# Altium footprint library IC_SMD_BGA.PCBLIB: 109 footprints (part 7 of 14)
Each footprint in its own frame and in the unit in brackets; x right, y up, seen from the top. Pads: shape width x height; smd on the part's side, far side on the other; paste and mask are expansions set on the pad; w line width, h text height; cw(c..) or ccw(c..) is an arc to the next point about the centre after c.
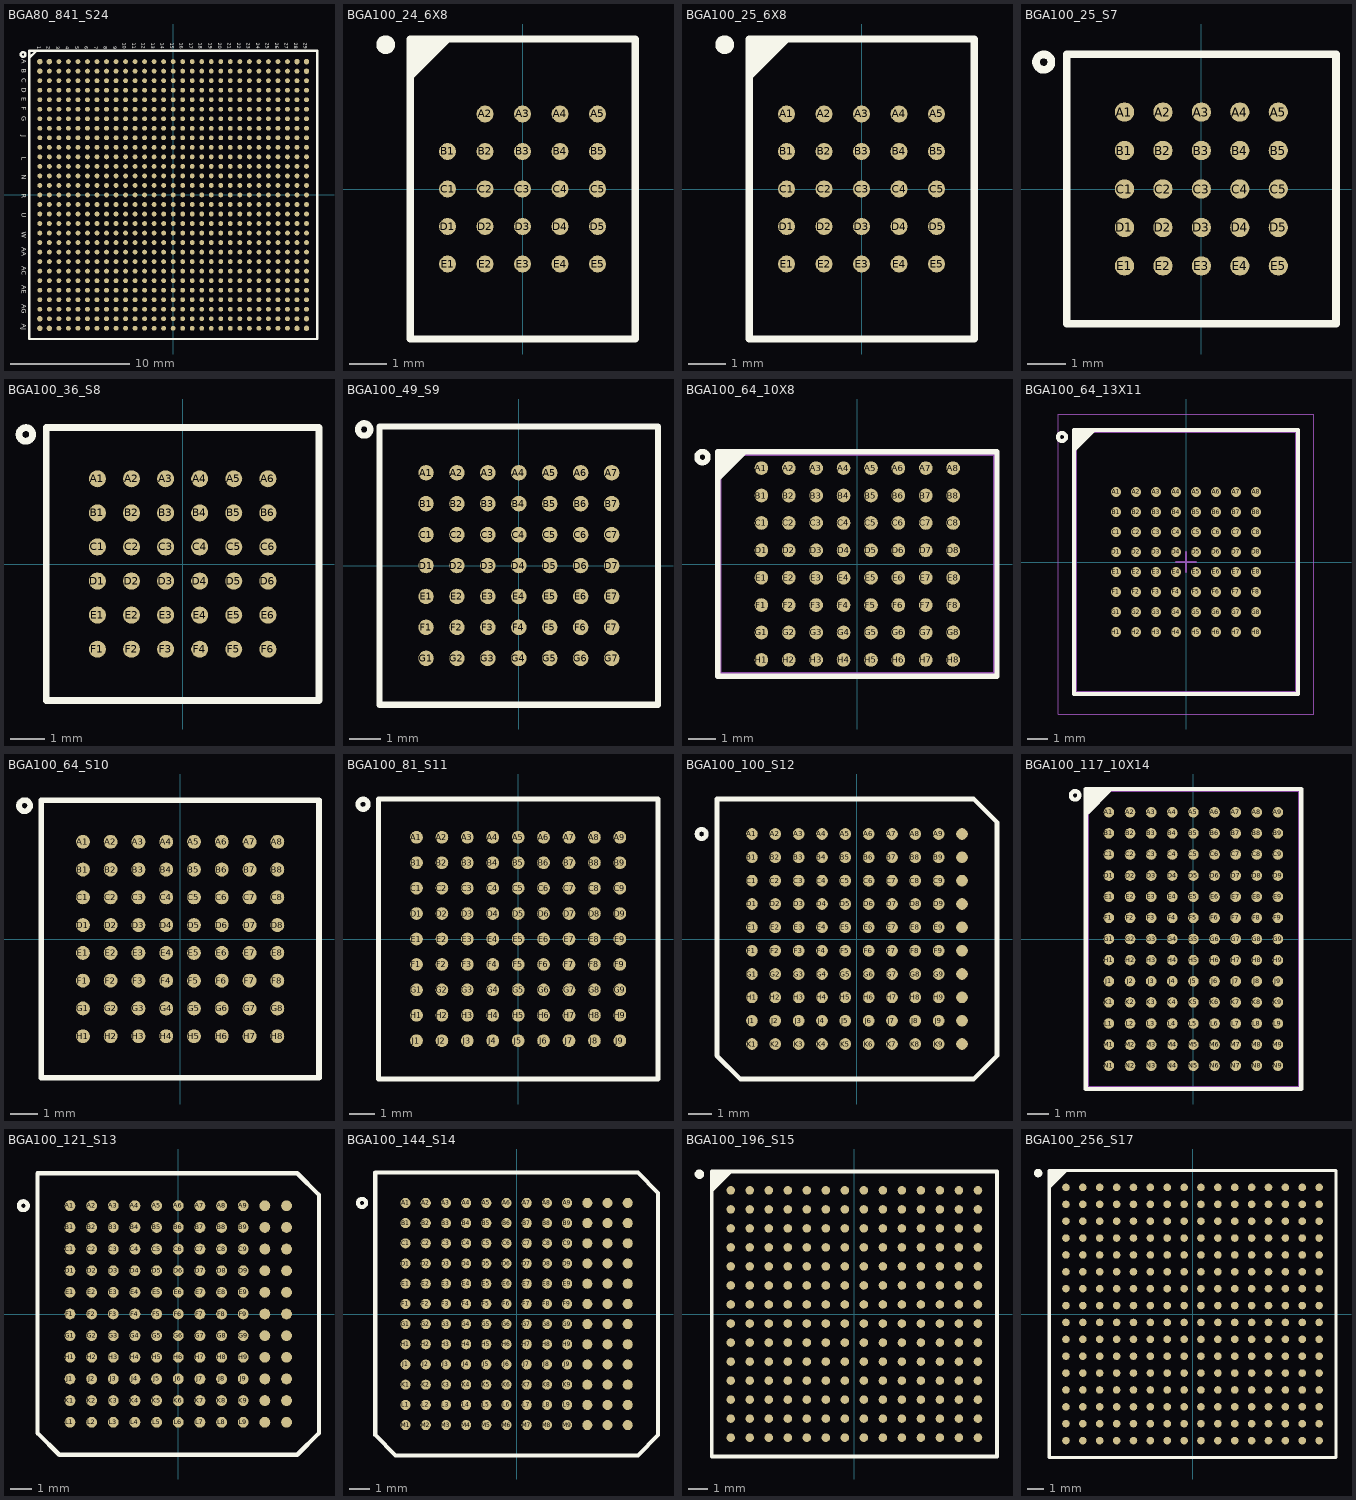
[diagram p6: the footprints below, top view; thin cyan lines are the x and y axes]

## BGA80_841_S24 [mil] "BGA_841P_31_945X945"
pads (841):
  round 18 smd: A1(-440.94,440.94) A2(-409.45,440.94) A28(409.45,440.94) A29(440.94,440.94) AH1(-440.94,-409.45) AH29(440.94,-409.45) AJ1(-440.94,-440.94) AJ2(-409.45,-440.94) AJ28(409.45,-440.94) AJ29(440.94,-440.94) B1(-440.94,409.45) B29(440.94,409.45)
  round 16 smd: A3(-377.95,440.94) A4(-346.46,440.94) A5(-314.96,440.94) A6(-283.46,440.94) A7(-251.97,440.94) A8(-220.47,440.94) A9(-188.98,440.94) A10(-157.48,440.94) A11(-125.98,440.94) A12(-94.49,440.94) A13(-62.99,440.94) A14(-31.5,440.94) A15(0,440.94) A16(31.5,440.94) A17(62.99,440.94) A18(94.49,440.94) A19(125.98,440.94) A20(157.48,440.94) A21(188.98,440.94) A22(220.47,440.94) A23(251.97,440.94) A24(283.46,440.94) A25(314.96,440.94) A26(346.46,440.94) A27(377.95,440.94) AA1(-440.94,-188.98) AA2(-409.45,-188.98) AA3(-377.95,-188.98) AA4(-346.46,-188.98) AA5(-314.96,-188.98) AA6(-283.46,-188.98) AA7(-251.97,-188.98) AA8(-220.47,-188.98) AA9(-188.98,-188.98) AA10(-157.48,-188.98) AA11(-125.98,-188.98) AA12(-94.49,-188.98) AA13(-62.99,-188.98) AA14(-31.5,-188.98) AA15(0,-188.98) AA16(31.5,-188.98) AA17(62.99,-188.98) AA18(94.49,-188.98) AA19(125.98,-188.98) AA20(157.48,-188.98) AA21(188.98,-188.98) AA22(220.47,-188.98) AA23(251.97,-188.98) AA24(283.46,-188.98) AA25(314.96,-188.98) AA26(346.46,-188.98) AA27(377.95,-188.98) AA28(409.45,-188.98) AA29(440.94,-188.98) AB1(-440.94,-220.47) AB2(-409.45,-220.47) AB3(-377.95,-220.47) AB4(-346.46,-220.47) AB5(-314.96,-220.47) AB6(-283.46,-220.47) AB7(-251.97,-220.47) AB8(-220.47,-220.47) AB9(-188.98,-220.47) AB10(-157.48,-220.47) AB11(-125.98,-220.47) AB12(-94.49,-220.47) AB13(-62.99,-220.47) AB14(-31.5,-220.47) AB15(0,-220.47) AB16(31.5,-220.47) AB17(62.99,-220.47) AB18(94.49,-220.47) AB19(125.98,-220.47) AB20(157.48,-220.47) AB21(188.98,-220.47) AB22(220.47,-220.47) AB23(251.97,-220.47) AB24(283.46,-220.47) AB25(314.96,-220.47) AB26(346.46,-220.47) AB27(377.95,-220.47) AB28(409.45,-220.47) AB29(440.94,-220.47) AC1(-440.94,-251.97) AC2(-409.45,-251.97) AC3(-377.95,-251.97) AC4(-346.46,-251.97) AC5(-314.96,-251.97) AC6(-283.46,-251.97) AC7(-251.97,-251.97) AC8(-220.47,-251.97) AC9(-188.98,-251.97) AC10(-157.48,-251.97) AC11(-125.98,-251.97) AC12(-94.49,-251.97) AC13(-62.99,-251.97) AC14(-31.5,-251.97) AC15(0,-251.97) AC16(31.5,-251.97) AC17(62.99,-251.97) AC18(94.49,-251.97) AC19(125.98,-251.97) AC20(157.48,-251.97) AC21(188.98,-251.97) AC22(220.47,-251.97) AC23(251.97,-251.97) AC24(283.46,-251.97) AC25(314.96,-251.97) AC26(346.46,-251.97) AC27(377.95,-251.97) AC28(409.45,-251.97) AC29(440.94,-251.97) AD1(-440.94,-283.46) AD2(-409.45,-283.46) AD3(-377.95,-283.46) AD4(-346.46,-283.46) AD5(-314.96,-283.46) AD6(-283.46,-283.46) AD7(-251.97,-283.46) AD8(-220.47,-283.46) AD9(-188.98,-283.46) AD10(-157.48,-283.46) AD11(-125.98,-283.46) AD12(-94.49,-283.46) AD13(-62.99,-283.46) AD14(-31.5,-283.46) AD15(0,-283.46) AD16(31.5,-283.46) AD17(62.99,-283.46) AD18(94.49,-283.46) AD19(125.98,-283.46) AD20(157.48,-283.46) AD21(188.98,-283.46) AD22(220.47,-283.46) AD23(251.97,-283.46) AD24(283.46,-283.46) AD25(314.96,-283.46) AD26(346.46,-283.46) AD27(377.95,-283.46) AD28(409.45,-283.46) AD29(440.94,-283.46) AE1(-440.94,-314.96) AE2(-409.45,-314.96) AE3(-377.95,-314.96) AE4(-346.46,-314.96) AE5(-314.96,-314.96) AE6(-283.46,-314.96) AE7(-251.97,-314.96) AE8(-220.47,-314.96) AE9(-188.98,-314.96) AE10(-157.48,-314.96) AE11(-125.98,-314.96) AE12(-94.49,-314.96) AE13(-62.99,-314.96) AE14(-31.5,-314.96) AE15(0,-314.96) AE16(31.5,-314.96) AE17(62.99,-314.96) AE18(94.49,-314.96) AE19(125.98,-314.96) AE20(157.48,-314.96) AE21(188.98,-314.96) AE22(220.47,-314.96) AE23(251.97,-314.96) AE24(283.46,-314.96) AE25(314.96,-314.96) AE26(346.46,-314.96) AE27(377.95,-314.96) AE28(409.45,-314.96) AE29(440.94,-314.96) AF1(-440.94,-346.46) AF2(-409.45,-346.46) AF3(-377.95,-346.46) AF4(-346.46,-346.46) AF5(-314.96,-346.46) AF6(-283.46,-346.46) AF7(-251.97,-346.46) AF8(-220.47,-346.46) AF9(-188.98,-346.46) AF10(-157.48,-346.46) AF11(-125.98,-346.46) AF12(-94.49,-346.46) AF13(-62.99,-346.46) AF14(-31.5,-346.46) AF15(0,-346.46) AF16(31.5,-346.46) AF17(62.99,-346.46) AF18(94.49,-346.46) AF19(125.98,-346.46) AF20(157.48,-346.46) AF21(188.98,-346.46) AF22(220.47,-346.46) AF23(251.97,-346.46) AF24(283.46,-346.46) AF25(314.96,-346.46) AF26(346.46,-346.46) AF27(377.95,-346.46) AF28(409.45,-346.46) AF29(440.94,-346.46) AG1(-440.94,-377.95) AG2(-409.45,-377.95) AG3(-377.95,-377.95) AG4(-346.46,-377.95) AG5(-314.96,-377.95) AG6(-283.46,-377.95) AG7(-251.97,-377.95) AG8(-220.47,-377.95) AG9(-188.98,-377.95) AG10(-157.48,-377.95) AG11(-125.98,-377.95) AG12(-94.49,-377.95) AG13(-62.99,-377.95) AG14(-31.5,-377.95) AG15(0,-377.95) AG16(31.5,-377.95) AG17(62.99,-377.95) AG18(94.49,-377.95) AG19(125.98,-377.95) AG20(157.48,-377.95) AG21(188.98,-377.95) AG22(220.47,-377.95) AG23(251.97,-377.95) AG24(283.46,-377.95) AG25(314.96,-377.95) AG26(346.46,-377.95) AG27(377.95,-377.95) AG28(409.45,-377.95) AG29(440.94,-377.95) AH2(-409.45,-409.45) AH3(-377.95,-409.45) AH4(-346.46,-409.45) AH5(-314.96,-409.45) AH6(-283.46,-409.45) AH7(-251.97,-409.45) AH8(-220.47,-409.45) AH9(-188.98,-409.45) AH10(-157.48,-409.45) AH11(-125.98,-409.45) AH12(-94.49,-409.45) AH13(-62.99,-409.45) AH14(-31.5,-409.45) AH15(0,-409.45) AH16(31.5,-409.45) AH17(62.99,-409.45) AH18(94.49,-409.45) AH19(125.98,-409.45) AH20(157.48,-409.45) AH21(188.98,-409.45) AH22(220.47,-409.45) AH23(251.97,-409.45) AH24(283.46,-409.45) AH25(314.96,-409.45) AH26(346.46,-409.45) AH27(377.95,-409.45) AH28(409.45,-409.45) AJ3(-377.95,-440.94) AJ4(-346.46,-440.94) AJ5(-314.96,-440.94) AJ6(-283.46,-440.94) AJ7(-251.97,-440.94) AJ8(-220.47,-440.94) AJ9(-188.98,-440.94) AJ10(-157.48,-440.94) AJ11(-125.98,-440.94) AJ12(-94.49,-440.94) AJ13(-62.99,-440.94) AJ14(-31.5,-440.94) AJ15(0,-440.94) AJ16(31.5,-440.94) AJ17(62.99,-440.94) AJ18(94.49,-440.94) AJ19(125.98,-440.94) AJ20(157.48,-440.94) AJ21(188.98,-440.94) AJ22(220.47,-440.94) AJ23(251.97,-440.94) AJ24(283.46,-440.94) AJ25(314.96,-440.94) AJ26(346.46,-440.94) AJ27(377.95,-440.94) B2(-409.45,409.45) B3(-377.95,409.45) B4(-346.46,409.45) B5(-314.96,409.45) B6(-283.46,409.45) B7(-251.97,409.45) B8(-220.47,409.45) B9(-188.98,409.45) B10(-157.48,409.45) B11(-125.98,409.45) B12(-94.49,409.45) B13(-62.99,409.45) B14(-31.5,409.45) B15(0,409.45) B16(31.5,409.45) B17(62.99,409.45) B18(94.49,409.45) B19(125.98,409.45) B20(157.48,409.45) B21(188.98,409.45) B22(220.47,409.45) B23(251.97,409.45) B24(283.46,409.45) B25(314.96,409.45) B26(346.46,409.45) B27(377.95,409.45) B28(409.45,409.45) C1(-440.94,377.95) C2(-409.45,377.95) C3(-377.95,377.95) C4(-346.46,377.95) C5(-314.96,377.95) C6(-283.46,377.95) C7(-251.97,377.95) C8(-220.47,377.95) C9(-188.98,377.95) C10(-157.48,377.95) C11(-125.98,377.95) C12(-94.49,377.95) C13(-62.99,377.95) C14(-31.5,377.95) C15(0,377.95) C16(31.5,377.95) C17(62.99,377.95) C18(94.49,377.95) C19(125.98,377.95) C20(157.48,377.95) C21(188.98,377.95) C22(220.47,377.95) C23(251.97,377.95) C24(283.46,377.95) C25(314.96,377.95) C26(346.46,377.95) C27(377.95,377.95) C28(409.45,377.95) C29(440.94,377.95) D1(-440.94,346.46) D2(-409.45,346.46) D3(-377.95,346.46) D4(-346.46,346.46) D5(-314.96,346.46) D6(-283.46,346.46) D7(-251.97,346.46) D8(-220.47,346.46) D9(-188.98,346.46) D10(-157.48,346.46) D11(-125.98,346.46) D12(-94.49,346.46) D13(-62.99,346.46) D14(-31.5,346.46) D15(0,346.46) D16(31.5,346.46) D17(62.99,346.46) D18(94.49,346.46) D19(125.98,346.46) D20(157.48,346.46) D21(188.98,346.46) D22(220.47,346.46) D23(251.97,346.46) D24(283.46,346.46) D25(314.96,346.46) D26(346.46,346.46) D27(377.95,346.46) D28(409.45,346.46) D29(440.94,346.46) E1(-440.94,314.96) E2(-409.45,314.96) E3(-377.95,314.96) E4(-346.46,314.96) E5(-314.96,314.96) E6(-283.46,314.96) E7(-251.97,314.96) E8(-220.47,314.96) E9(-188.98,314.96) E10(-157.48,314.96) E11(-125.98,314.96) E12(-94.49,314.96) E13(-62.99,314.96) E14(-31.5,314.96) E15(0,314.96) E16(31.5,314.96) E17(62.99,314.96) E18(94.49,314.96) E19(125.98,314.96) E20(157.48,314.96) E21(188.98,314.96) E22(220.47,314.96) E23(251.97,314.96) E24(283.46,314.96) E25(314.96,314.96) E26(346.46,314.96) E27(377.95,314.96) E28(409.45,314.96) E29(440.94,314.96) F1(-440.94,283.46) F2(-409.45,283.46) F3(-377.95,283.46) F4(-346.46,283.46) F5(-314.96,283.46) F6(-283.46,283.46) F7(-251.97,283.46) F8(-220.47,283.46) F9(-188.98,283.46) F10(-157.48,283.46) F11(-125.98,283.46) F12(-94.49,283.46) F13(-62.99,283.46) F14(-31.5,283.46) F15(0,283.46) F16(31.5,283.46) F17(62.99,283.46) F18(94.49,283.46) F19(125.98,283.46) F20(157.48,283.46) F21(188.98,283.46) F22(220.47,283.46) F23(251.97,283.46) F24(283.46,283.46) F25(314.96,283.46) F26(346.46,283.46) F27(377.95,283.46) F28(409.45,283.46) F29(440.94,283.46) G1(-440.94,251.97) G2(-409.45,251.97) G3(-377.95,251.97) G4(-346.46,251.97) G5(-314.96,251.97) G6(-283.46,251.97) G7(-251.97,251.97) G8(-220.47,251.97) G9(-188.98,251.97) G10(-157.48,251.97) G11(-125.98,251.97) G12(-94.49,251.97) G13(-62.99,251.97) G14(-31.5,251.97) G15(0,251.97) G16(31.5,251.97) G17(62.99,251.97) G18(94.49,251.97) G19(125.98,251.97) G20(157.48,251.97) G21(188.98,251.97) G22(220.47,251.97) G23(251.97,251.97) G24(283.46,251.97) G25(314.96,251.97) G26(346.46,251.97) G27(377.95,251.97) G28(409.45,251.97) G29(440.94,251.97) H1(-440.94,220.47) H2(-409.45,220.47) H3(-377.95,220.47) H4(-346.46,220.47) H5(-314.96,220.47) H6(-283.46,220.47) H7(-251.97,220.47) H8(-220.47,220.47) H9(-188.98,220.47) H10(-157.48,220.47) H11(-125.98,220.47) H12(-94.49,220.47) H13(-62.99,220.47) H14(-31.5,220.47) H15(0,220.47) H16(31.5,220.47) H17(62.99,220.47) H18(94.49,220.47) H19(125.98,220.47) H20(157.48,220.47) H21(188.98,220.47) H22(220.47,220.47) H23(251.97,220.47) H24(283.46,220.47) H25(314.96,220.47) H26(346.46,220.47) H27(377.95,220.47) H28(409.45,220.47) H29(440.94,220.47) J1(-440.94,188.98) J2(-409.45,188.98) J3(-377.95,188.98) J4(-346.46,188.98) J5(-314.96,188.98) J6(-283.46,188.98) J7(-251.97,188.98) J8(-220.47,188.98) J9(-188.98,188.98) J10(-157.48,188.98) J11(-125.98,188.98) J12(-94.49,188.98) J13(-62.99,188.98) J14(-31.5,188.98) J15(0,188.98) J16(31.5,188.98) J17(62.99,188.98) J18(94.49,188.98) J19(125.98,188.98) J20(157.48,188.98) J21(188.98,188.98) J22(220.47,188.98) J23(251.97,188.98) J24(283.46,188.98) J25(314.96,188.98) J26(346.46,188.98) J27(377.95,188.98) J28(409.45,188.98) J29(440.94,188.98) K1(-440.94,157.48) K2(-409.45,157.48) K3(-377.95,157.48) K4(-346.46,157.48) K5(-314.96,157.48) K6(-283.46,157.48) K7(-251.97,157.48) K8(-220.47,157.48) K9(-188.98,157.48) K10(-157.48,157.48) K11(-125.98,157.48) K12(-94.49,157.48) K13(-62.99,157.48) K14(-31.5,157.48) K15(0,157.48) K16(31.5,157.48) K17(62.99,157.48) K18(94.49,157.48) K19(125.98,157.48) K20(157.48,157.48) K21(188.98,157.48) K22(220.47,157.48) K23(251.97,157.48) K24(283.46,157.48) K25(314.96,157.48) K26(346.46,157.48) K27(377.95,157.48) K28(409.45,157.48) K29(440.94,157.48) L1(-440.94,125.98) L2(-409.45,125.98) L3(-377.95,125.98) L4(-346.46,125.98) L5(-314.96,125.98) L6(-283.46,125.98) L7(-251.97,125.98) L8(-220.47,125.98) L9(-188.98,125.98) L10(-157.48,125.98) L11(-125.98,125.98) L12(-94.49,125.98) L13(-62.99,125.98) L14(-31.5,125.98) L15(0,125.98) L16(31.5,125.98) L17(62.99,125.98) L18(94.49,125.98) L19(125.98,125.98) L20(157.48,125.98) L21(188.98,125.98) L22(220.47,125.98) L23(251.97,125.98) L24(283.46,125.98) L25(314.96,125.98) L26(346.46,125.98) L27(377.95,125.98) L28(409.45,125.98) L29(440.94,125.98) M1(-440.94,94.49) M2(-409.45,94.49) M3(-377.95,94.49) M4(-346.46,94.49) M5(-314.96,94.49) M6(-283.46,94.49) M7(-251.97,94.49) M8(-220.47,94.49) M9(-188.98,94.49) M10(-157.48,94.49) M11(-125.98,94.49) M12(-94.49,94.49) M13(-62.99,94.49) M14(-31.5,94.49) M15(0,94.49) M16(31.5,94.49) M17(62.99,94.49) M18(94.49,94.49) M19(125.98,94.49) M20(157.48,94.49) M21(188.98,94.49) M22(220.47,94.49) M23(251.97,94.49) M24(283.46,94.49) M25(314.96,94.49) M26(346.46,94.49) M27(377.95,94.49) M28(409.45,94.49) M29(440.94,94.49) N1(-440.94,62.99) N2(-409.45,62.99) N3(-377.95,62.99) N4(-346.46,62.99) N5(-314.96,62.99) N6(-283.46,62.99) N7(-251.97,62.99) N8(-220.47,62.99) N9(-188.98,62.99) N10(-157.48,62.99) N11(-125.98,62.99) N12(-94.49,62.99) N13(-62.99,62.99) N14(-31.5,62.99) N15(0,62.99) N16(31.5,62.99) N17(62.99,62.99) N18(94.49,62.99) N19(125.98,62.99) N20(157.48,62.99) N21(188.98,62.99) N22(220.47,62.99) N23(251.97,62.99) N24(283.46,62.99) N25(314.96,62.99) N26(346.46,62.99) N27(377.95,62.99) N28(409.45,62.99) N29(440.94,62.99) P1(-440.94,31.5) P2(-409.45,31.5) P3(-377.95,31.5) P4(-346.46,31.5) P5(-314.96,31.5) P6(-283.46,31.5) P7(-251.97,31.5) P8(-220.47,31.5) P9(-188.98,31.5) P10(-157.48,31.5) P11(-125.98,31.5) P12(-94.49,31.5) P13(-62.99,31.5) P14(-31.5,31.5) P15(0,31.5) P16(31.5,31.5) P17(62.99,31.5) P18(94.49,31.5) P19(125.98,31.5) P20(157.48,31.5) P21(188.98,31.5) P22(220.47,31.5) P23(251.97,31.5) P24(283.46,31.5) P25(314.96,31.5) P26(346.46,31.5) P27(377.95,31.5) P28(409.45,31.5) P29(440.94,31.5) R1(-440.94,0) R2(-409.45,0) R3(-377.95,0) R4(-346.46,0) R5(-314.96,0) R6(-283.46,0) R7(-251.97,0) R8(-220.47,0) R9(-188.98,0) R10(-157.48,0) R11(-125.98,0) R12(-94.49,0) R13(-62.99,0) R14(-31.5,0) R15(0,0) R16(31.5,0) R17(62.99,0) R18(94.49,0) R19(125.98,0) R20(157.48,0) R21(188.98,0) R22(220.47,0) R23(251.97,0) R24(283.46,0) R25(314.96,0) R26(346.46,0) R27(377.95,0) R28(409.45,0) R29(440.94,0) T1(-440.94,-31.5) T2(-409.45,-31.5) T3(-377.95,-31.5) T4(-346.46,-31.5) T5(-314.96,-31.5) T6(-283.46,-31.5) T7(-251.97,-31.5) T8(-220.47,-31.5) T9(-188.98,-31.5) T10(-157.48,-31.5) T11(-125.98,-31.5) T12(-94.49,-31.5) T13(-62.99,-31.5) T14(-31.5,-31.5) T15(0,-31.5) T16(31.5,-31.5) T17(62.99,-31.5) T18(94.49,-31.5) T19(125.98,-31.5) T20(157.48,-31.5) T21(188.98,-31.5) T22(220.47,-31.5) T23(251.97,-31.5) T24(283.46,-31.5) T25(314.96,-31.5) T26(346.46,-31.5) T27(377.95,-31.5) T28(409.45,-31.5) T29(440.94,-31.5) U1(-440.94,-62.99) U2(-409.45,-62.99) U3(-377.95,-62.99) U4(-346.46,-62.99) U5(-314.96,-62.99) U6(-283.46,-62.99) U7(-251.97,-62.99) U8(-220.47,-62.99) U9(-188.98,-62.99) U10(-157.48,-62.99) U11(-125.98,-62.99) U12(-94.49,-62.99) U13(-62.99,-62.99) U14(-31.5,-62.99) U15(0,-62.99) U16(31.5,-62.99) U17(62.99,-62.99) U18(94.49,-62.99) U19(125.98,-62.99) U20(157.48,-62.99) U21(188.98,-62.99) U22(220.47,-62.99) U23(251.97,-62.99) U24(283.46,-62.99) U25(314.96,-62.99) U26(346.46,-62.99) U27(377.95,-62.99) U28(409.45,-62.99) U29(440.94,-62.99) V1(-440.94,-94.49) V2(-409.45,-94.49) V3(-377.95,-94.49) V4(-346.46,-94.49) V5(-314.96,-94.49) V6(-283.46,-94.49) V7(-251.97,-94.49) V8(-220.47,-94.49) V9(-188.98,-94.49) V10(-157.48,-94.49) V11(-125.98,-94.49) V12(-94.49,-94.49) V13(-62.99,-94.49) V14(-31.5,-94.49) V15(0,-94.49) V16(31.5,-94.49) V17(62.99,-94.49) V18(94.49,-94.49) V19(125.98,-94.49) V20(157.48,-94.49) V21(188.98,-94.49) V22(220.47,-94.49) V23(251.97,-94.49) V24(283.46,-94.49) V25(314.96,-94.49) V26(346.46,-94.49) V27(377.95,-94.49) V28(409.45,-94.49) V29(440.94,-94.49) W1(-440.94,-125.98) W2(-409.45,-125.98) W3(-377.95,-125.98) W4(-346.46,-125.98) W5(-314.96,-125.98) W6(-283.46,-125.98) W7(-251.97,-125.98) W8(-220.47,-125.98) W9(-188.98,-125.98) W10(-157.48,-125.98) W11(-125.98,-125.98) W12(-94.49,-125.98) W13(-62.99,-125.98) W14(-31.5,-125.98) W15(0,-125.98) W16(31.5,-125.98) W17(62.99,-125.98) W18(94.49,-125.98) W19(125.98,-125.98) W20(157.48,-125.98) W21(188.98,-125.98) W22(220.47,-125.98) W23(251.97,-125.98) W24(283.46,-125.98) W25(314.96,-125.98) W26(346.46,-125.98) W27(377.95,-125.98) W28(409.45,-125.98) W29(440.94,-125.98) Y1(-440.94,-157.48) Y2(-409.45,-157.48) Y3(-377.95,-157.48) Y4(-346.46,-157.48) Y5(-314.96,-157.48) Y6(-283.46,-157.48) Y7(-251.97,-157.48) Y8(-220.47,-157.48) Y9(-188.98,-157.48) Y10(-157.48,-157.48) Y11(-125.98,-157.48) Y12(-94.49,-157.48) Y13(-62.99,-157.48) Y14(-31.5,-157.48) Y15(0,-157.48) Y16(31.5,-157.48) Y17(62.99,-157.48) Y18(94.49,-157.48) Y19(125.98,-157.48) Y20(157.48,-157.48) Y21(188.98,-157.48) Y22(220.47,-157.48) Y23(251.97,-157.48) Y24(283.46,-157.48) Y25(314.96,-157.48) Y26(346.46,-157.48) Y27(377.95,-157.48) Y28(409.45,-157.48) Y29(440.94,-157.48)
TopOverlay:
  circle w7.87: c-496.06,464.57 r7.87
  lines w7.87: -476.38,452.76 -452.76,476.38 ; -476.38,-476.38 476.38,-476.38 476.38,476.38 -476.38,476.38 -476.38,-476.38
  text "29" at 431.85,503.94 h11.81
  text "28" at 400.35,503.94 h11.81
  text "27" at 368.86,503.94 h11.81
  text "26" at 337.36,503.94 h11.81
  text "25" at 305.87,503.94 h11.81
  text "24" at 274.37,503.94 h11.81
  text "23" at 242.87,503.94 h11.81
  text "22" at 211.38,503.94 h11.81
  text "21" at 179.88,503.94 h11.81
  text "20" at 148.39,503.94 h11.81
  text "19" at 116.89,503.94 h11.81
  text "18" at 85.39,503.94 h11.81
  text "17" at 53.9,503.94 h11.81
  text "16" at 22.4,503.94 h11.81
  text "15" at -9.09,503.94 h11.81
  text "14" at -40.59,503.94 h11.81
  text "13" at -72.09,503.94 h11.81
  text "12" at -103.58,503.94 h11.81
  text "11" at -135.08,503.94 h11.81
  text "10" at -166.57,503.94 h11.81
  text "9" at -197.46,492.13 h11.81
  text "8" at -228.96,492.13 h11.81
  text "7" at -260.45,492.13 h11.81
  text "6" at -291.95,492.13 h11.81
  text "5" at -323.44,492.13 h11.81
  text "4" at -354.94,492.13 h11.81
  text "3" at -386.44,492.13 h11.81
  text "2" at -417.93,492.13 h11.81
  text "AJ" at -500,-425.19 h15.75
  text "AG" at -500,-362.2 h15.75
  text "AE" at -500,-299.21 h15.75
  text "AC" at -500,-236.22 h15.75
  text "AA" at -500,-173.23 h15.75
  text "W" at -500,-122.05 h15.75
  text "U" at -500,-59.06 h15.75
  text "R" at -500,3.94 h15.75
  text "N" at -500,66.93 h15.75
  text "L" at -500,125.98 h15.75
  text "J" at -500,196.85 h15.75
  text "G" at -500,259.84 h15.75
  text "F" at -500,291.33 h15.75
  text "E" at -500,322.83 h15.75
  text "D" at -500,354.33 h15.75
  text "C" at -500,385.82 h15.75
  text "B" at -500,417.32 h15.75
  text "1" at -449.43,492.13 h11.81
  text "A" at -500,448.81 h15.75
3D body: height 125.98, standoff 86.61, extent -452.76,-452.76 452.76,452.76
3D body: height 59.06, standoff 15.75, extent -472.44,-472.44 472.44,472.44

## BGA100_24_6X8 [mm] "TFBGA, 1mm pitch, 6X8mm, 5X5=24-Ball"
height 1.2
pads (24):
  round 0.45 smd mask+0.075: A2(-1,2) A3(0,2) A4(1,2) A5(2,2) B1(-2,1) B2(-1,1) B3(0,1) B4(1,1) B5(2,1) C1(-2,0) C2(-1,0) C3(0,0) C4(1,0) C5(2,0) D1(-2,-1) D2(-1,-1) D3(0,-1) D4(1,-1) D5(2,-1) E1(-2,-2) E2(-1,-2) E3(0,-2) E4(1,-2) E5(2,-2)
TopOverlay:
  circle w0.25: c-3.65,3.85 r0.125
  region: -2,4 -3,3 -3,4
  lines w0.2: -3,3 -2,4 ; -3,-4 3,-4 3,4 -3,4 -3,-4
Mechanical13:
  lines w0.1: -3,-4 3,-4 3,4 -3,4 -3,-4
3D body "BGA100_25_6X8.step": height 1.2, standoff 0, extent -3,-4 3,4

## BGA100_25_6X8 [mm] "TFBGA, 1mm pitch, 6X8mm, 5X5=25-Ball"
height 1.2
pads (25):
  round 0.45 smd mask+0.075: A1(-2,2) A2(-1,2) A3(0,2) A4(1,2) A5(2,2) B1(-2,1) B2(-1,1) B3(0,1) B4(1,1) B5(2,1) C1(-2,0) C2(-1,0) C3(0,0) C4(1,0) C5(2,0) D1(-2,-1) D2(-1,-1) D3(0,-1) D4(1,-1) D5(2,-1) E1(-2,-2) E2(-1,-2) E3(0,-2) E4(1,-2) E5(2,-2)
TopOverlay:
  circle w0.25: c-3.65,3.85 r0.125
  region: -2,4 -3,3 -3,4
  lines w0.2: -3,3 -2,4 ; -3,-4 -3,4 3,4 3,-4 -3,-4
Mechanical13:
  lines w0.1: -3,-4 -3,4 3,4 3,-4 -3,-4
3D body "BGA100_25_6X8.step": height 1.2, standoff 0, extent -3,-4 3,4

## BGA100_25_S7 [mm] "BGA, 25-Leads, Body 7x7mm, Pitch 1mm"
height 3.5
pads (25):
  round 0.5 smd: A1(-2,2) A2(-1,2) A3(0,2) A4(1,2) A5(2,2) B1(-2,1) B2(-1,1) B3(0,1) B4(1,1) B5(2,1) C1(-2,0) C2(-1,0) C3(0,0) C4(1,0) C5(2,0) D1(-2,-1) D2(-1,-1) D3(0,-1) D4(1,-1) D5(2,-1) E1(-2,-2) E2(-1,-2) E3(0,-2) E4(1,-2) E5(2,-2)
TopOverlay:
  circle w0.2: c-4.1,3.3 r0.2
  lines w0.2: -3.5,-3.5 -3.5,3.5 3.5,3.5 3.5,-3.5 -3.5,-3.5

## BGA100_36_S8 [mm] "BGA, 36-Leads, Body 8x8mm, Pitch 1mm"
height 3.5
pads (36):
  round 0.5 smd: A1(-2.5,2.5) A2(-1.5,2.5) A3(-0.5,2.5) A4(0.5,2.5) A5(1.5,2.5) A6(2.5,2.5) B1(-2.5,1.5) B2(-1.5,1.5) B3(-0.5,1.5) B4(0.5,1.5) B5(1.5,1.5) B6(2.5,1.5) C1(-2.5,0.5) C2(-1.5,0.5) C3(-0.5,0.5) C4(0.5,0.5) C5(1.5,0.5) C6(2.5,0.5) D1(-2.5,-0.5) D2(-1.5,-0.5) D3(-0.5,-0.5) D4(0.5,-0.5) D5(1.5,-0.5) D6(2.5,-0.5) E1(-2.5,-1.5) E2(-1.5,-1.5) E3(-0.5,-1.5) E4(0.5,-1.5) E5(1.5,-1.5) E6(2.5,-1.5) F1(-2.5,-2.5) F2(-1.5,-2.5) F3(-0.5,-2.5) F4(0.5,-2.5) F5(1.5,-2.5) F6(2.5,-2.5)
TopOverlay:
  circle w0.2: c-4.6,3.8 r0.2
  lines w0.2: -4,-4 4,-4 4,4 -4,4 -4,-4

## BGA100_49_S9 [mm] "BGA; 49 Balls; Body 9 x 9 mm; Pitch 1 mm"
height 3.5
pads (49):
  round 0.5 smd: A1(-3,3) A2(-2,3) A3(-1,3) A4(0,3) A5(1,3) A6(2,3) A7(3,3) B1(-3,2) B2(-2,2) B3(-1,2) B4(0,2) B5(1,2) B6(2,2) B7(3,2) C1(-3,1) C2(-2,1) C3(-1,1) C4(0,1) C5(1,1) C6(2,1) C7(3,1) D1(-3,0) D2(-2,0) D3(-1,0) D4(0,0) D5(1,0) D6(2,0) D7(3,0) E1(-3,-1) E2(-2,-1) E3(-1,-1) E4(0,-1) E5(1,-1) E6(2,-1) E7(3,-1) F1(-3,-2) F2(-2,-2) F3(-1,-2) F4(0,-2) F5(1,-2) F6(2,-2) F7(3,-2) G1(-3,-3) G2(-2,-3) G3(-1,-3) G4(0,-3) G5(1,-3) G6(2,-3) G7(3,-3)
TopOverlay:
  circle w0.2: c-5,4.4 r0.2
  lines w0.2: -4.5,-4.5 -4.5,4.5 4.5,4.5 4.5,-4.5 -4.5,-4.5

## BGA100_64_10X8 [mm] "BGA 64-Ball, 1mm pitch, 8x10x1.2 mm"
height 1.2
pads (64):
  round 0.5 smd: A1(-3.5,3.5) A2(-2.5,3.5) A3(-1.5,3.5) A4(-0.5,3.5) A5(0.5,3.5) A6(1.5,3.5) A7(2.5,3.5) A8(3.5,3.5) B1(-3.5,2.5) B2(-2.5,2.5) B3(-1.5,2.5) B4(-0.5,2.5) B5(0.5,2.5) B6(1.5,2.5) B7(2.5,2.5) B8(3.5,2.5) C1(-3.5,1.5) C2(-2.5,1.5) C3(-1.5,1.5) C4(-0.5,1.5) C5(0.5,1.5) C6(1.5,1.5) C7(2.5,1.5) C8(3.5,1.5) D1(-3.5,0.5) D2(-2.5,0.5) D3(-1.5,0.5) D4(-0.5,0.5) D5(0.5,0.5) D6(1.5,0.5) D7(2.5,0.5) D8(3.5,0.5) E1(-3.5,-0.5) E2(-2.5,-0.5) E3(-1.5,-0.5) E4(-0.5,-0.5) E5(0.5,-0.5) E6(1.5,-0.5) E7(2.5,-0.5) E8(3.5,-0.5) F1(-3.5,-1.5) F2(-2.5,-1.5) F3(-1.5,-1.5) F4(-0.5,-1.5) F5(0.5,-1.5) F6(1.5,-1.5) F7(2.5,-1.5) F8(3.5,-1.5) G1(-3.5,-2.5) G2(-2.5,-2.5) G3(-1.5,-2.5) G4(-0.5,-2.5) G5(0.5,-2.5) G6(1.5,-2.5) G7(2.5,-2.5) G8(3.5,-2.5) H1(-3.5,-3.5) H2(-2.5,-3.5) H3(-1.5,-3.5) H4(-0.5,-3.5) H5(0.5,-3.5) H6(1.5,-3.5) H7(2.5,-3.5) H8(3.5,-3.5)
TopOverlay:
  circle w0.2: c-5.65,3.9 r0.2
  region: -4.1,4.1 -5.1,3.1 -5.1,4.1
  lines w0.2: -5.1,3.1 -4.1,4.1 ; -5.1,-4.1 -5.1,4.1 5.1,4.1 5.1,-4.1 -5.1,-4.1
Mechanical13:
  lines w0.1: -5,-4 -5,4 5,4 5,-4 -5,-4
3D body: height 1.2, standoff 0.25, extent -5,-4 5,4

## BGA100_64_13X11 [mm] "BGA, LAA064, 64-Leads, Body 13x11mm, Pitch 1mm"
height 1.2
pads (64):
  round 0.5 smd: A1(-3.5,3.5) A2(-2.5,3.5) A3(-1.5,3.5) A4(-0.5,3.5) A5(0.5,3.5) A6(1.5,3.5) A7(2.5,3.5) A8(3.5,3.5) B1(-3.5,2.5) B2(-2.5,2.5) B3(-1.5,2.5) B4(-0.5,2.5) B5(0.5,2.5) B6(1.5,2.5) B7(2.5,2.5) B8(3.5,2.5) C1(-3.5,1.5) C2(-2.5,1.5) C3(-1.5,1.5) C4(-0.5,1.5) C5(0.5,1.5) C6(1.5,1.5) C7(2.5,1.5) C8(3.5,1.5) D1(-3.5,0.5) D2(-2.5,0.5) D3(-1.5,0.5) D4(-0.5,0.5) D5(0.5,0.5) D6(1.5,0.5) D7(2.5,0.5) D8(3.5,0.5) E1(-3.5,-0.5) E2(-2.5,-0.5) E3(-1.5,-0.5) E4(-0.5,-0.5) E5(0.5,-0.5) E6(1.5,-0.5) E7(2.5,-0.5) E8(3.5,-0.5) F1(-3.5,-1.5) F2(-2.5,-1.5) F3(-1.5,-1.5) F4(-0.5,-1.5) F5(0.5,-1.5) F6(1.5,-1.5) F7(2.5,-1.5) F8(3.5,-1.5) G1(-3.5,-2.5) G2(-2.5,-2.5) G3(-1.5,-2.5) G4(-0.5,-2.5) G5(0.5,-2.5) G6(1.5,-2.5) G7(2.5,-2.5) G8(3.5,-2.5) H1(-3.5,-3.5) H2(-2.5,-3.5) H3(-1.5,-3.5) H4(-0.5,-3.5) H5(0.5,-3.5) H6(1.5,-3.5) H7(2.5,-3.5) H8(3.5,-3.5)
TopOverlay:
  circle w0.2: c-6.2,6.25 r0.2
  region: -4.6,6.6 -5.6,5.6 -5.6,6.6
  lines w0.2: -5.6,5.6 -4.6,6.6 ; -5.6,-6.6 5.6,-6.6 5.6,6.6 -5.6,6.6 -5.6,-6.6
Mechanical13:
  lines w0.1: -5.5,-6.5 5.5,-6.5 5.5,6.5 -5.5,6.5 -5.5,-6.5
Mechanical15:
  lines w0.05: -6.4,-7.6 6.4,-7.6 6.4,7.4 -6.4,7.4 -6.4,-7.6
  lines w0.1: -0.5,0 0.5,0 ; 0,-0.5 0,0.5
3D body "LAA064_SPA.step": height 1.4, standoff 0, extent -5.499,-6.502 5.499,6.502

## BGA100_64_S10 [mm] "BGA; 64 Balls; Body 10 x 10 mm; Pitch 1 mm"
height 3.5
pads (64):
  round 0.5 smd: A1(-3.5,3.5) A2(-2.5,3.5) A3(-1.5,3.5) A4(-0.5,3.5) A5(0.5,3.5) A6(1.5,3.5) A7(2.5,3.5) A8(3.5,3.5) B1(-3.5,2.5) B2(-2.5,2.5) B3(-1.5,2.5) B4(-0.5,2.5) B5(0.5,2.5) B6(1.5,2.5) B7(2.5,2.5) B8(3.5,2.5) C1(-3.5,1.5) C2(-2.5,1.5) C3(-1.5,1.5) C4(-0.5,1.5) C5(0.5,1.5) C6(1.5,1.5) C7(2.5,1.5) C8(3.5,1.5) D1(-3.5,0.5) D2(-2.5,0.5) D3(-1.5,0.5) D4(-0.5,0.5) D5(0.5,0.5) D6(1.5,0.5) D7(2.5,0.5) D8(3.5,0.5) E1(-3.5,-0.5) E2(-2.5,-0.5) E3(-1.5,-0.5) E4(-0.5,-0.5) E5(0.5,-0.5) E6(1.5,-0.5) E7(2.5,-0.5) E8(3.5,-0.5) F1(-3.5,-1.5) F2(-2.5,-1.5) F3(-1.5,-1.5) F4(-0.5,-1.5) F5(0.5,-1.5) F6(1.5,-1.5) F7(2.5,-1.5) F8(3.5,-1.5) G1(-3.5,-2.5) G2(-2.5,-2.5) G3(-1.5,-2.5) G4(-0.5,-2.5) G5(0.5,-2.5) G6(1.5,-2.5) G7(2.5,-2.5) G8(3.5,-2.5) H1(-3.5,-3.5) H2(-2.5,-3.5) H3(-1.5,-3.5) H4(-0.5,-3.5) H5(0.5,-3.5) H6(1.5,-3.5) H7(2.5,-3.5) H8(3.5,-3.5)
TopOverlay:
  circle w0.2: c-5.6,4.8 r0.2
  lines w0.2: -5,-5 -5,5 5,5 5,-5 -5,-5

## BGA100_81_S11 [mm] "BGA; 81 Balls; Body 11 x 11 mm; Pitch 1 mm"
height 3.5
pads (81):
  round 0.5 smd: A1(-4,4) A2(-3,4) A3(-2,4) A4(-1,4) A5(0,4) A6(1,4) A7(2,4) A8(3,4) A9(4,4) B1(-4,3) B2(-3,3) B3(-2,3) B4(-1,3) B5(0,3) B6(1,3) B7(2,3) B8(3,3) B9(4,3) C1(-4,2) C2(-3,2) C3(-2,2) C4(-1,2) C5(0,2) C6(1,2) C7(2,2) C8(3,2) C9(4,2) D1(-4,1) D2(-3,1) D3(-2,1) D4(-1,1) D5(0,1) D6(1,1) D7(2,1) D8(3,1) D9(4,1) E1(-4,0) E2(-3,0) E3(-2,0) E4(-1,0) E5(0,0) E6(1,0) E7(2,0) E8(3,0) E9(4,0) F1(-4,-1) F2(-3,-1) F3(-2,-1) F4(-1,-1) F5(0,-1) F6(1,-1) F7(2,-1) F8(3,-1) F9(4,-1) G1(-4,-2) G2(-3,-2) G3(-2,-2) G4(-1,-2) G5(0,-2) G6(1,-2) G7(2,-2) G8(3,-2) G9(4,-2) H1(-4,-3) H2(-3,-3) H3(-2,-3) H4(-1,-3) H5(0,-3) H6(1,-3) H7(2,-3) H8(3,-3) H9(4,-3) J1(-4,-4) J2(-3,-4) J3(-2,-4) J4(-1,-4) J5(0,-4) J6(1,-4) J7(2,-4) J8(3,-4) J9(4,-4)
TopOverlay:
  circle w0.2: c-6.1,5.3 r0.2
  lines w0.2: -5.5,-5.5 5.5,-5.5 5.5,5.5 -5.5,5.5 -5.5,-5.5

## BGA100_100_S12 [mm] "BGA; 100 Balls; Body 12 x 12 mm; Pitch 1 mm"
height 3.5
pads (100):
  round 0.5 smd: A1(-4.5,4.5) A2(-3.5,4.5) A3(-2.5,4.5) A4(-1.5,4.5) A5(-0.5,4.5) A6(0.5,4.5) A7(1.5,4.5) A8(2.5,4.5) A9(3.5,4.5) A10(4.5,4.5) B1(-4.5,3.5) B2(-3.5,3.5) B3(-2.5,3.5) B4(-1.5,3.5) B5(-0.5,3.5) B6(0.5,3.5) B7(1.5,3.5) B8(2.5,3.5) B9(3.5,3.5) B10(4.5,3.5) C1(-4.5,2.5) C2(-3.5,2.5) C3(-2.5,2.5) C4(-1.5,2.5) C5(-0.5,2.5) C6(0.5,2.5) C7(1.5,2.5) C8(2.5,2.5) C9(3.5,2.5) C10(4.5,2.5) D1(-4.5,1.5) D2(-3.5,1.5) D3(-2.5,1.5) D4(-1.5,1.5) D5(-0.5,1.5) D6(0.5,1.5) D7(1.5,1.5) D8(2.5,1.5) D9(3.5,1.5) D10(4.5,1.5) E1(-4.5,0.5) E2(-3.5,0.5) E3(-2.5,0.5) E4(-1.5,0.5) E5(-0.5,0.5) E6(0.5,0.5) E7(1.5,0.5) E8(2.5,0.5) E9(3.5,0.5) E10(4.5,0.5) F1(-4.5,-0.5) F2(-3.5,-0.5) F3(-2.5,-0.5) F4(-1.5,-0.5) F5(-0.5,-0.5) F6(0.5,-0.5) F7(1.5,-0.5) F8(2.5,-0.5) F9(3.5,-0.5) F10(4.5,-0.5) G1(-4.5,-1.5) G2(-3.5,-1.5) G3(-2.5,-1.5) G4(-1.5,-1.5) G5(-0.5,-1.5) G6(0.5,-1.5) G7(1.5,-1.5) G8(2.5,-1.5) G9(3.5,-1.5) G10(4.5,-1.5) H1(-4.5,-2.5) H2(-3.5,-2.5) H3(-2.5,-2.5) H4(-1.5,-2.5) H5(-0.5,-2.5) H6(0.5,-2.5) H7(1.5,-2.5) H8(2.5,-2.5) H9(3.5,-2.5) H10(4.5,-2.5) J1(-4.5,-3.5) J2(-3.5,-3.5) J3(-2.5,-3.5) J4(-1.5,-3.5) J5(-0.5,-3.5) J6(0.5,-3.5) J7(1.5,-3.5) J8(2.5,-3.5) J9(3.5,-3.5) J10(4.5,-3.5) K1(-4.5,-4.5) K2(-3.5,-4.5) K3(-2.5,-4.5) K4(-1.5,-4.5) K5(-0.5,-4.5) K6(0.5,-4.5) K7(1.5,-4.5) K8(2.5,-4.5) K9(3.5,-4.5) K10(4.5,-4.5)
TopOverlay:
  circle w0.2: c-6.655,4.5 r0.2
  lines w0.2: -6,-5 -5,-6 5,-6 6,-5 6,5 5,6 -6,6 -6,-5

## BGA100_117_10X14 [mm] "BGA, 117-Leads, Body 10x14mm, Pitch 1mm"
height 1.5
pads (117):
  round 0.5 smd: A1(-4,6) A2(-3,6) A3(-2,6) A4(-1,6) A5(0,6) A6(1,6) A7(2,6) A8(3,6) A9(4,6) B1(-4,5) B2(-3,5) B3(-2,5) B4(-1,5) B5(0,5) B6(1,5) B7(2,5) B8(3,5) B9(4,5) C1(-4,4) C2(-3,4) C3(-2,4) C4(-1,4) C5(0,4) C6(1,4) C7(2,4) C8(3,4) C9(4,4) D1(-4,3) D2(-3,3) D3(-2,3) D4(-1,3) D5(0,3) D6(1,3) D7(2,3) D8(3,3) D9(4,3) E1(-4,2) E2(-3,2) E3(-2,2) E4(-1,2) E5(0,2) E6(1,2) E7(2,2) E8(3,2) E9(4,2) F1(-4,1) F2(-3,1) F3(-2,1) F4(-1,1) F5(0,1) F6(1,1) F7(2,1) F8(3,1) F9(4,1) G1(-4,0) G2(-3,0) G3(-2,0) G4(-1,0) G5(0,0) G6(1,0) G7(2,0) G8(3,0) G9(4,0) H1(-4,-1) H2(-3,-1) H3(-2,-1) H4(-1,-1) H5(0,-1) H6(1,-1) H7(2,-1) H8(3,-1) H9(4,-1) J1(-4,-2) J2(-3,-2) J3(-2,-2) J4(-1,-2) J5(0,-2) J6(1,-2) J7(2,-2) J8(3,-2) J9(4,-2) K1(-4,-3) K2(-3,-3) K3(-2,-3) K4(-1,-3) K5(0,-3) K6(1,-3) K7(2,-3) K8(3,-3) K9(4,-3) L1(-4,-4) L2(-3,-4) L3(-2,-4) L4(-1,-4) L5(0,-4) L6(1,-4) L7(2,-4) L8(3,-4) L9(4,-4) M1(-4,-5) M2(-3,-5) M3(-2,-5) M4(-1,-5) M5(0,-5) M6(1,-5) M7(2,-5) M8(3,-5) M9(4,-5) N1(-4,-6) N2(-3,-6) N3(-2,-6) N4(-1,-6) N5(0,-6) N6(1,-6) N7(2,-6) N8(3,-6) N9(4,-6)
TopOverlay:
  circle w0.2: c-5.6,6.8 r0.2
  region: -4,7 -5,6 -5,7
  lines w0.2: -5,6 -4,7 ; -5.1,-7.1 -5.1,7.1 5.1,7.1 5.1,-7.1 -5.1,-7.1
Mechanical13:
  lines w0.1: -5,-7 -5,7 5,7 5,-7 -5,-7
3D body: height 1.5, standoff 0.4, extent -5,-7 5,7

## BGA100_121_S13 [mm] "BGA; 121 Balls; Body 13 x 13 mm; Pitch 1 mm"
height 3.5
pads (121):
  round 0.5 smd: A1(-5,5) A2(-4,5) A3(-3,5) A4(-2,5) A5(-1,5) A6(0,5) A7(1,5) A8(2,5) A9(3,5) A10(4,5) A11(5,5) B1(-5,4) B2(-4,4) B3(-3,4) B4(-2,4) B5(-1,4) B6(0,4) B7(1,4) B8(2,4) B9(3,4) B10(4,4) B11(5,4) C1(-5,3) C2(-4,3) C3(-3,3) C4(-2,3) C5(-1,3) C6(0,3) C7(1,3) C8(2,3) C9(3,3) C10(4,3) C11(5,3) D1(-5,2) D2(-4,2) D3(-3,2) D4(-2,2) D5(-1,2) D6(0,2) D7(1,2) D8(2,2) D9(3,2) D10(4,2) D11(5,2) E1(-5,1) E2(-4,1) E3(-3,1) E4(-2,1) E5(-1,1) E6(0,1) E7(1,1) E8(2,1) E9(3,1) E10(4,1) E11(5,1) F1(-5,0) F2(-4,0) F3(-3,0) F4(-2,0) F5(-1,0) F6(0,0) F7(1,0) F8(2,0) F9(3,0) F10(4,0) F11(5,0) G1(-5,-1) G2(-4,-1) G3(-3,-1) G4(-2,-1) G5(-1,-1) G6(0,-1) G7(1,-1) G8(2,-1) G9(3,-1) G10(4,-1) G11(5,-1) H1(-5,-2) H2(-4,-2) H3(-3,-2) H4(-2,-2) H5(-1,-2) H6(0,-2) H7(1,-2) H8(2,-2) H9(3,-2) H10(4,-2) H11(5,-2) J1(-5,-3) J2(-4,-3) J3(-3,-3) J4(-2,-3) J5(-1,-3) J6(0,-3) J7(1,-3) J8(2,-3) J9(3,-3) J10(4,-3) J11(5,-3) K1(-5,-4) K2(-4,-4) K3(-3,-4) K4(-2,-4) K5(-1,-4) K6(0,-4) K7(1,-4) K8(2,-4) K9(3,-4) K10(4,-4) K11(5,-4) L1(-5,-5) L2(-4,-5) L3(-3,-5) L4(-2,-5) L5(-1,-5) L6(0,-5) L7(1,-5) L8(2,-5) L9(3,-5) L10(4,-5) L11(5,-5)
TopOverlay:
  circle w0.2: c-7.155,5 r0.2
  lines w0.2: -6.5,-5.5 -5.5,-6.5 5.5,-6.5 6.5,-5.5 6.5,5.5 5.5,6.5 -6.5,6.5 -6.5,-5.5

## BGA100_144_S14 [mm] "BGA; 144 Balls; Body 14 x 14 mm; Pitch 1 mm"
height 3.5
pads (144):
  round 0.5 smd: A1(-5.5,5.5) A2(-4.5,5.5) A3(-3.5,5.5) A4(-2.5,5.5) A5(-1.5,5.5) A6(-0.5,5.5) A7(0.5,5.5) A8(1.5,5.5) A9(2.5,5.5) A10(3.5,5.5) A11(4.5,5.5) A12(5.5,5.5) B1(-5.5,4.5) B2(-4.5,4.5) B3(-3.5,4.5) B4(-2.5,4.5) B5(-1.5,4.5) B6(-0.5,4.5) B7(0.5,4.5) B8(1.5,4.5) B9(2.5,4.5) B10(3.5,4.5) B11(4.5,4.5) B12(5.5,4.5) C1(-5.5,3.5) C2(-4.5,3.5) C3(-3.5,3.5) C4(-2.5,3.5) C5(-1.5,3.5) C6(-0.5,3.5) C7(0.5,3.5) C8(1.5,3.5) C9(2.5,3.5) C10(3.5,3.5) C11(4.5,3.5) C12(5.5,3.5) D1(-5.5,2.5) D2(-4.5,2.5) D3(-3.5,2.5) D4(-2.5,2.5) D5(-1.5,2.5) D6(-0.5,2.5) D7(0.5,2.5) D8(1.5,2.5) D9(2.5,2.5) D10(3.5,2.5) D11(4.5,2.5) D12(5.5,2.5) E1(-5.5,1.5) E2(-4.5,1.5) E3(-3.5,1.5) E4(-2.5,1.5) E5(-1.5,1.5) E6(-0.5,1.5) E7(0.5,1.5) E8(1.5,1.5) E9(2.5,1.5) E10(3.5,1.5) E11(4.5,1.5) E12(5.5,1.5) F1(-5.5,0.5) F2(-4.5,0.5) F3(-3.5,0.5) F4(-2.5,0.5) F5(-1.5,0.5) F6(-0.5,0.5) F7(0.5,0.5) F8(1.5,0.5) F9(2.5,0.5) F10(3.5,0.5) F11(4.5,0.5) F12(5.5,0.5) G1(-5.5,-0.5) G2(-4.5,-0.5) G3(-3.5,-0.5) G4(-2.5,-0.5) G5(-1.5,-0.5) G6(-0.5,-0.5) G7(0.5,-0.5) G8(1.5,-0.5) G9(2.5,-0.5) G10(3.5,-0.5) G11(4.5,-0.5) G12(5.5,-0.5) H1(-5.5,-1.5) H2(-4.5,-1.5) H3(-3.5,-1.5) H4(-2.5,-1.5) H5(-1.5,-1.5) H6(-0.5,-1.5) H7(0.5,-1.5) H8(1.5,-1.5) H9(2.5,-1.5) H10(3.5,-1.5) H11(4.5,-1.5) H12(5.5,-1.5) J1(-5.5,-2.5) J2(-4.5,-2.5) J3(-3.5,-2.5) J4(-2.5,-2.5) J5(-1.5,-2.5) J6(-0.5,-2.5) J7(0.5,-2.5) J8(1.5,-2.5) J9(2.5,-2.5) J10(3.5,-2.5) J11(4.5,-2.5) J12(5.5,-2.5) K1(-5.5,-3.5) K2(-4.5,-3.5) K3(-3.5,-3.5) K4(-2.5,-3.5) K5(-1.5,-3.5) K6(-0.5,-3.5) K7(0.5,-3.5) K8(1.5,-3.5) K9(2.5,-3.5) K10(3.5,-3.5) K11(4.5,-3.5) K12(5.5,-3.5) L1(-5.5,-4.5) L2(-4.5,-4.5) L3(-3.5,-4.5) L4(-2.5,-4.5) L5(-1.5,-4.5) L6(-0.5,-4.5) L7(0.5,-4.5) L8(1.5,-4.5) L9(2.5,-4.5) L10(3.5,-4.5) L11(4.5,-4.5) L12(5.5,-4.5) M1(-5.5,-5.5) M2(-4.5,-5.5) M3(-3.5,-5.5) M4(-2.5,-5.5) M5(-1.5,-5.5) M6(-0.5,-5.5) M7(0.5,-5.5) M8(1.5,-5.5) M9(2.5,-5.5) M10(3.5,-5.5) M11(4.5,-5.5) M12(5.5,-5.5)
TopOverlay:
  circle w0.2: c-7.655,5.5 r0.2
  lines w0.2: -7,-6 -6,-7 6,-7 7,-6 7,6 6,7 -7,7 -7,-6

## BGA100_196_S15 [mm] "BGA, FTGB196, 196-Leads, Body 15.00x15.00mmx1.55mm, Pitch 1.00mm"
height 1.55
pads (196):
  round 0.45 smd: A1(-6.5,6.5) A2(-5.5,6.5) A3(-4.5,6.5) A4(-3.5,6.5) A5(-2.5,6.5) A6(-1.5,6.5) A7(-0.5,6.5) A8(0.5,6.5) A9(1.5,6.5) A10(2.5,6.5) A11(3.5,6.5) A12(4.5,6.5) A13(5.5,6.5) A14(6.5,6.5) B1(-6.5,5.5) B2(-5.5,5.5) B3(-4.5,5.5) B4(-3.5,5.5) B5(-2.5,5.5) B6(-1.5,5.5) B7(-0.5,5.5) B8(0.5,5.5) B9(1.5,5.5) B10(2.5,5.5) B11(3.5,5.5) B12(4.5,5.5) B13(5.5,5.5) B14(6.5,5.5) C1(-6.5,4.5) C2(-5.5,4.5) C3(-4.5,4.5) C4(-3.5,4.5) C5(-2.5,4.5) C6(-1.5,4.5) C7(-0.5,4.5) C8(0.5,4.5) C9(1.5,4.5) C10(2.5,4.5) C11(3.5,4.5) C12(4.5,4.5) C13(5.5,4.5) C14(6.5,4.5) D1(-6.5,3.5) D2(-5.5,3.5) D3(-4.5,3.5) D4(-3.5,3.5) D5(-2.5,3.5) D6(-1.5,3.5) D7(-0.5,3.5) D8(0.5,3.5) D9(1.5,3.5) D10(2.5,3.5) D11(3.5,3.5) D12(4.5,3.5) D13(5.5,3.5) D14(6.5,3.5) E1(-6.5,2.5) E2(-5.5,2.5) E3(-4.5,2.5) E4(-3.5,2.5) E5(-2.5,2.5) E6(-1.5,2.5) E7(-0.5,2.5) E8(0.5,2.5) E9(1.5,2.5) E10(2.5,2.5) E11(3.5,2.5) E12(4.5,2.5) E13(5.5,2.5) E14(6.5,2.5) F1(-6.5,1.5) F2(-5.5,1.5) F3(-4.5,1.5) F4(-3.5,1.5) F5(-2.5,1.5) F6(-1.5,1.5) F7(-0.5,1.5) F8(0.5,1.5) F9(1.5,1.5) F10(2.5,1.5) F11(3.5,1.5) F12(4.5,1.5) F13(5.5,1.5) F14(6.5,1.5) G1(-6.5,0.5) G2(-5.5,0.5) G3(-4.5,0.5) G4(-3.5,0.5) G5(-2.5,0.5) G6(-1.5,0.5) G7(-0.5,0.5) G8(0.5,0.5) G9(1.5,0.5) G10(2.5,0.5) G11(3.5,0.5) G12(4.5,0.5) G13(5.5,0.5) G14(6.5,0.5) H1(-6.5,-0.5) H2(-5.5,-0.5) H3(-4.5,-0.5) H4(-3.5,-0.5) H5(-2.5,-0.5) H6(-1.5,-0.5) H7(-0.5,-0.5) H8(0.5,-0.5) H9(1.5,-0.5) H10(2.5,-0.5) H11(3.5,-0.5) H12(4.5,-0.5) H13(5.5,-0.5) H14(6.5,-0.5) J1(-6.5,-1.5) J2(-5.5,-1.5) J3(-4.5,-1.5) J4(-3.5,-1.5) J5(-2.5,-1.5) J6(-1.5,-1.5) J7(-0.5,-1.5) J8(0.5,-1.5) J9(1.5,-1.5) J10(2.5,-1.5) J11(3.5,-1.5) J12(4.5,-1.5) J13(5.5,-1.5) J14(6.5,-1.5) K1(-6.5,-2.5) K2(-5.5,-2.5) K3(-4.5,-2.5) K4(-3.5,-2.5) K5(-2.5,-2.5) K6(-1.5,-2.5) K7(-0.5,-2.5) K8(0.5,-2.5) K9(1.5,-2.5) K10(2.5,-2.5) K11(3.5,-2.5) K12(4.5,-2.5) K13(5.5,-2.5) K14(6.5,-2.5) L1(-6.5,-3.5) L2(-5.5,-3.5) L3(-4.5,-3.5) L4(-3.5,-3.5) L5(-2.5,-3.5) L6(-1.5,-3.5) L7(-0.5,-3.5) L8(0.5,-3.5) L9(1.5,-3.5) L10(2.5,-3.5) L11(3.5,-3.5) L12(4.5,-3.5) L13(5.5,-3.5) L14(6.5,-3.5) M1(-6.5,-4.5) M2(-5.5,-4.5) M3(-4.5,-4.5) M4(-3.5,-4.5) M5(-2.5,-4.5) M6(-1.5,-4.5) M7(-0.5,-4.5) M8(0.5,-4.5) M9(1.5,-4.5) M10(2.5,-4.5) M11(3.5,-4.5) M12(4.5,-4.5) M13(5.5,-4.5) M14(6.5,-4.5) N1(-6.5,-5.5) N2(-5.5,-5.5) N3(-4.5,-5.5) N4(-3.5,-5.5) N5(-2.5,-5.5) N6(-1.5,-5.5) N7(-0.5,-5.5) N8(0.5,-5.5) N9(1.5,-5.5) N10(2.5,-5.5) N11(3.5,-5.5) N12(4.5,-5.5) N13(5.5,-5.5) N14(6.5,-5.5) P1(-6.5,-6.5) P2(-5.5,-6.5) P3(-4.5,-6.5) P4(-3.5,-6.5) P5(-2.5,-6.5) P6(-1.5,-6.5) P7(-0.5,-6.5) P8(0.5,-6.5) P9(1.5,-6.5) P10(2.5,-6.5) P11(3.5,-6.5) P12(4.5,-6.5) P13(5.5,-6.5) P14(6.5,-6.5)
TopOverlay:
  circle w0.25: c-8.15,7.35 r0.125
  region: -6.5,7.5 -7.5,6.5 -7.5,7.5
  lines w0.2: -7.5,6.5 -6.5,7.5 ; -7.5,-7.5 7.5,-7.5 7.5,7.5 -7.5,7.5 -7.5,-7.5
Mechanical13:
  lines w0.1: -7.5,-7.5 7.5,-7.5 7.5,7.5 -7.5,7.5 -7.5,-7.5
3D body "BGA100_196_.step": height 1.55, standoff 0, extent -7.5,-7.5 7.5,7.5

## BGA100_256_S17 [mm] "LBGA256, Body 17x17mm, Pitch 1.00mm"
height 1.1
pads (256):
  round 0.45 smd: A1(-7.5,7.5) A2(-6.5,7.5) A3(-5.5,7.5) A4(-4.5,7.5) A5(-3.5,7.5) A6(-2.5,7.5) A7(-1.5,7.5) A8(-0.5,7.5) A9(0.5,7.5) A10(1.5,7.5) A11(2.5,7.5) A12(3.5,7.5) A13(4.5,7.5) A14(5.5,7.5) A15(6.5,7.5) A16(7.5,7.5) B1(-7.5,6.5) B2(-6.5,6.5) B3(-5.5,6.5) B4(-4.5,6.5) B5(-3.5,6.5) B6(-2.5,6.5) B7(-1.5,6.5) B8(-0.5,6.5) B9(0.5,6.5) B10(1.5,6.5) B11(2.5,6.5) B12(3.5,6.5) B13(4.5,6.5) B14(5.5,6.5) B15(6.5,6.5) B16(7.5,6.5) C1(-7.5,5.5) C2(-6.5,5.5) C3(-5.5,5.5) C4(-4.5,5.5) C5(-3.5,5.5) C6(-2.5,5.5) C7(-1.5,5.5) C8(-0.5,5.5) C9(0.5,5.5) C10(1.5,5.5) C11(2.5,5.5) C12(3.5,5.5) C13(4.5,5.5) C14(5.5,5.5) C15(6.5,5.5) C16(7.5,5.5) D1(-7.5,4.5) D2(-6.5,4.5) D3(-5.5,4.5) D4(-4.5,4.5) D5(-3.5,4.5) D6(-2.5,4.5) D7(-1.5,4.5) D8(-0.5,4.5) D9(0.5,4.5) D10(1.5,4.5) D11(2.5,4.5) D12(3.5,4.5) D13(4.5,4.5) D14(5.5,4.5) D15(6.5,4.5) D16(7.5,4.5) E1(-7.5,3.5) E2(-6.5,3.5) E3(-5.5,3.5) E4(-4.5,3.5) E5(-3.5,3.5) E6(-2.5,3.5) E7(-1.5,3.5) E8(-0.5,3.5) E9(0.5,3.5) E10(1.5,3.5) E11(2.5,3.5) E12(3.5,3.5) E13(4.5,3.5) E14(5.5,3.5) E15(6.5,3.5) E16(7.5,3.5) F1(-7.5,2.5) F2(-6.5,2.5) F3(-5.5,2.5) F4(-4.5,2.5) F5(-3.5,2.5) F6(-2.5,2.5) F7(-1.5,2.5) F8(-0.5,2.5) F9(0.5,2.5) F10(1.5,2.5) F11(2.5,2.5) F12(3.5,2.5) F13(4.5,2.5) F14(5.5,2.5) F15(6.5,2.5) F16(7.5,2.5) G1(-7.5,1.5) G2(-6.5,1.5) G3(-5.5,1.5) G4(-4.5,1.5) G5(-3.5,1.5) G6(-2.5,1.5) G7(-1.5,1.5) G8(-0.5,1.5) G9(0.5,1.5) G10(1.5,1.5) G11(2.5,1.5) G12(3.5,1.5) G13(4.5,1.5) G14(5.5,1.5) G15(6.5,1.5) G16(7.5,1.5) H1(-7.5,0.5) H2(-6.5,0.5) H3(-5.5,0.5) H4(-4.5,0.5) H5(-3.5,0.5) H6(-2.5,0.5) H7(-1.5,0.5) H8(-0.5,0.5) H9(0.5,0.5) H10(1.5,0.5) H11(2.5,0.5) H12(3.5,0.5) H13(4.5,0.5) H14(5.5,0.5) H15(6.5,0.5) H16(7.5,0.5) J1(-7.5,-0.5) J2(-6.5,-0.5) J3(-5.5,-0.5) J4(-4.5,-0.5) J5(-3.5,-0.5) J6(-2.5,-0.5) J7(-1.5,-0.5) J8(-0.5,-0.5) J9(0.5,-0.5) J10(1.5,-0.5) J11(2.5,-0.5) J12(3.5,-0.5) J13(4.5,-0.5) J14(5.5,-0.5) J15(6.5,-0.5) J16(7.5,-0.5) K1(-7.5,-1.5) K2(-6.5,-1.5) K3(-5.5,-1.5) K4(-4.5,-1.5) K5(-3.5,-1.5) K6(-2.5,-1.5) K7(-1.5,-1.5) K8(-0.5,-1.5) K9(0.5,-1.5) K10(1.5,-1.5) K11(2.5,-1.5) K12(3.5,-1.5) K13(4.5,-1.5) K14(5.5,-1.5) K15(6.5,-1.5) K16(7.5,-1.5) L1(-7.5,-2.5) L2(-6.5,-2.5) L3(-5.5,-2.5) L4(-4.5,-2.5) L5(-3.5,-2.5) L6(-2.5,-2.5) L7(-1.5,-2.5) L8(-0.5,-2.5) L9(0.5,-2.5) L10(1.5,-2.5) L11(2.5,-2.5) L12(3.5,-2.5) L13(4.5,-2.5) L14(5.5,-2.5) L15(6.5,-2.5) L16(7.5,-2.5) M1(-7.5,-3.5) M2(-6.5,-3.5) M3(-5.5,-3.5) M4(-4.5,-3.5) M5(-3.5,-3.5) M6(-2.5,-3.5) M7(-1.5,-3.5) M8(-0.5,-3.5) M9(0.5,-3.5) M10(1.5,-3.5) M11(2.5,-3.5) M12(3.5,-3.5) M13(4.5,-3.5) M14(5.5,-3.5) M15(6.5,-3.5) M16(7.5,-3.5) N1(-7.5,-4.5) N2(-6.5,-4.5) N3(-5.5,-4.5) N4(-4.5,-4.5) N5(-3.5,-4.5) N6(-2.5,-4.5) N7(-1.5,-4.5) N8(-0.5,-4.5) N9(0.5,-4.5) N10(1.5,-4.5) N11(2.5,-4.5) N12(3.5,-4.5) N13(4.5,-4.5) N14(5.5,-4.5) N15(6.5,-4.5) N16(7.5,-4.5) P1(-7.5,-5.5) P2(-6.5,-5.5) P3(-5.5,-5.5) P4(-4.5,-5.5) P5(-3.5,-5.5) P6(-2.5,-5.5) P7(-1.5,-5.5) P8(-0.5,-5.5) P9(0.5,-5.5) P10(1.5,-5.5) P11(2.5,-5.5) P12(3.5,-5.5) P13(4.5,-5.5) P14(5.5,-5.5) P15(6.5,-5.5) P16(7.5,-5.5) R1(-7.5,-6.5) R2(-6.5,-6.5) R3(-5.5,-6.5) R4(-4.5,-6.5) R5(-3.5,-6.5) R6(-2.5,-6.5) R7(-1.5,-6.5) R8(-0.5,-6.5) R9(0.5,-6.5) R10(1.5,-6.5) R11(2.5,-6.5) R12(3.5,-6.5) R13(4.5,-6.5) R14(5.5,-6.5) R15(6.5,-6.5) R16(7.5,-6.5) T1(-7.5,-7.5) T2(-6.5,-7.5) T3(-5.5,-7.5) T4(-4.5,-7.5) T5(-3.5,-7.5) T6(-2.5,-7.5) T7(-1.5,-7.5) T8(-0.5,-7.5) T9(0.5,-7.5) T10(1.5,-7.5) T11(2.5,-7.5) T12(3.5,-7.5) T13(4.5,-7.5) T14(5.5,-7.5) T15(6.5,-7.5) T16(7.5,-7.5)
TopOverlay:
  circle w0.25: c-9.15,8.35 r0.125
  region: -7.5,8.5 -8.5,7.5 -8.5,8.5
  lines w0.2: -8.5,7.5 -7.5,8.5 ; -8.5,-8.5 -8.5,8.5 8.5,8.5 8.5,-8.5 -8.5,-8.5
Mechanical13:
  lines w0.1: -8.5,-8.5 -8.5,8.5 8.5,8.5 8.5,-8.5 -8.5,-8.5
3D body: height 1.1, standoff 0.35, extent -8.5,-8.5 8.5,8.5